# Altium footprint library 10x2 FFC - Molex Locking.PcbLib: 1 footprints
Each footprint in its own frame and in the unit in brackets; x right, y up, seen from the top. Pads: shape width x height; smd on the part's side, far side on the other; paste and mask are expansions set on the pad; w line width, h text height; cw(c..) or ccw(c..) is an arc to the next point about the centre after c.
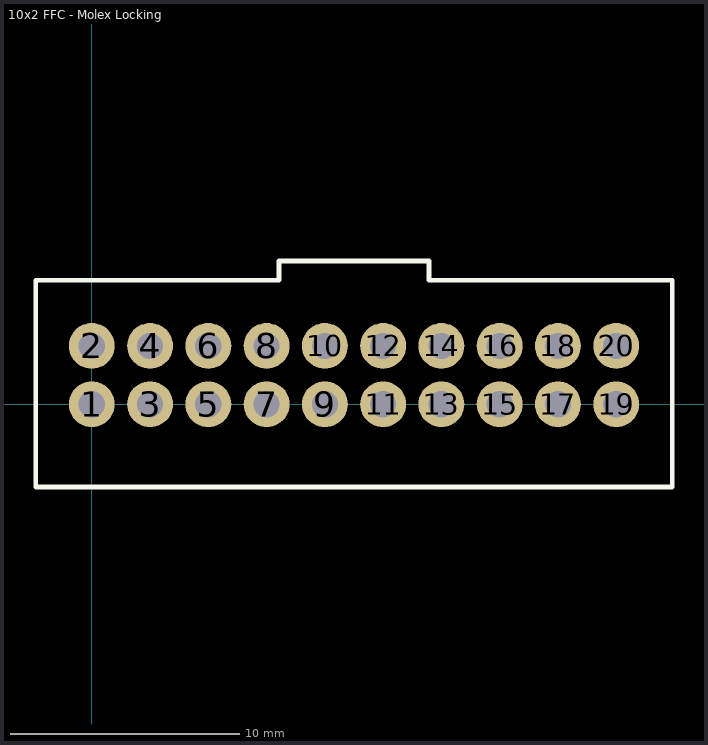
[diagram p0: the footprint, top view; thin cyan lines are the x and y axes]

## 10x2 FFC - Molex Locking [mm]
pads (20):
  round 2 hole 1.14: 1(0,0) 2(0,2.54) 3(2.54,0) 4(2.54,2.54) 5(5.08,0) 6(5.08,2.54) 7(7.62,0) 8(7.62,2.54) 9(10.16,0) 10(10.16,2.54) 11(12.7,0) 12(12.7,2.54) 13(15.24,0) 14(15.24,2.54) 15(17.78,0) 16(17.78,2.54) 17(20.32,0) 18(20.32,2.54) 19(22.86,0) 20(22.86,2.54)
Top Overlay:
  lines w0.2: -2.438,5.385 -2.438,-3.607 25.298,-3.607 25.298,5.41 14.7,5.41 14.7,6.24 8.16,6.24 8.16,5.41 -2.438,5.41
3D body: height 10.9, standoff -2.9, extent -2.44,-3.605 25.3,6.145